# Altium schematic symbol library SCH - RF - SWITCH - PSEMI PE42359.Schlib: 1 symbol
Pins are listed as number, name and electrical type; pins without a type are passive.

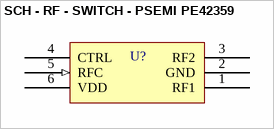
[diagram p0: symbol SCH - RF - SWITCH - PSEMI PE42359]

## SCH - RF - SWITCH - PSEMI PE42359
designator U?
footprint SC70-6 SOT363
pins: 1 RF1, 2 GND (power), 3 RF2, 4 CTRL, 5 RFC (in), 6 VDD (power)